# Altium footprint library multimodal.PcbLib: 69 footprints (part 3 of 5)
Each footprint in its own frame and in the unit in brackets; x right, y up, seen from the top. Pads: shape width x height; smd on the part's side, far side on the other; paste and mask are expansions set on the pad; w line width, h text height; cw(c..) or ccw(c..) is an arc to the next point about the centre after c.
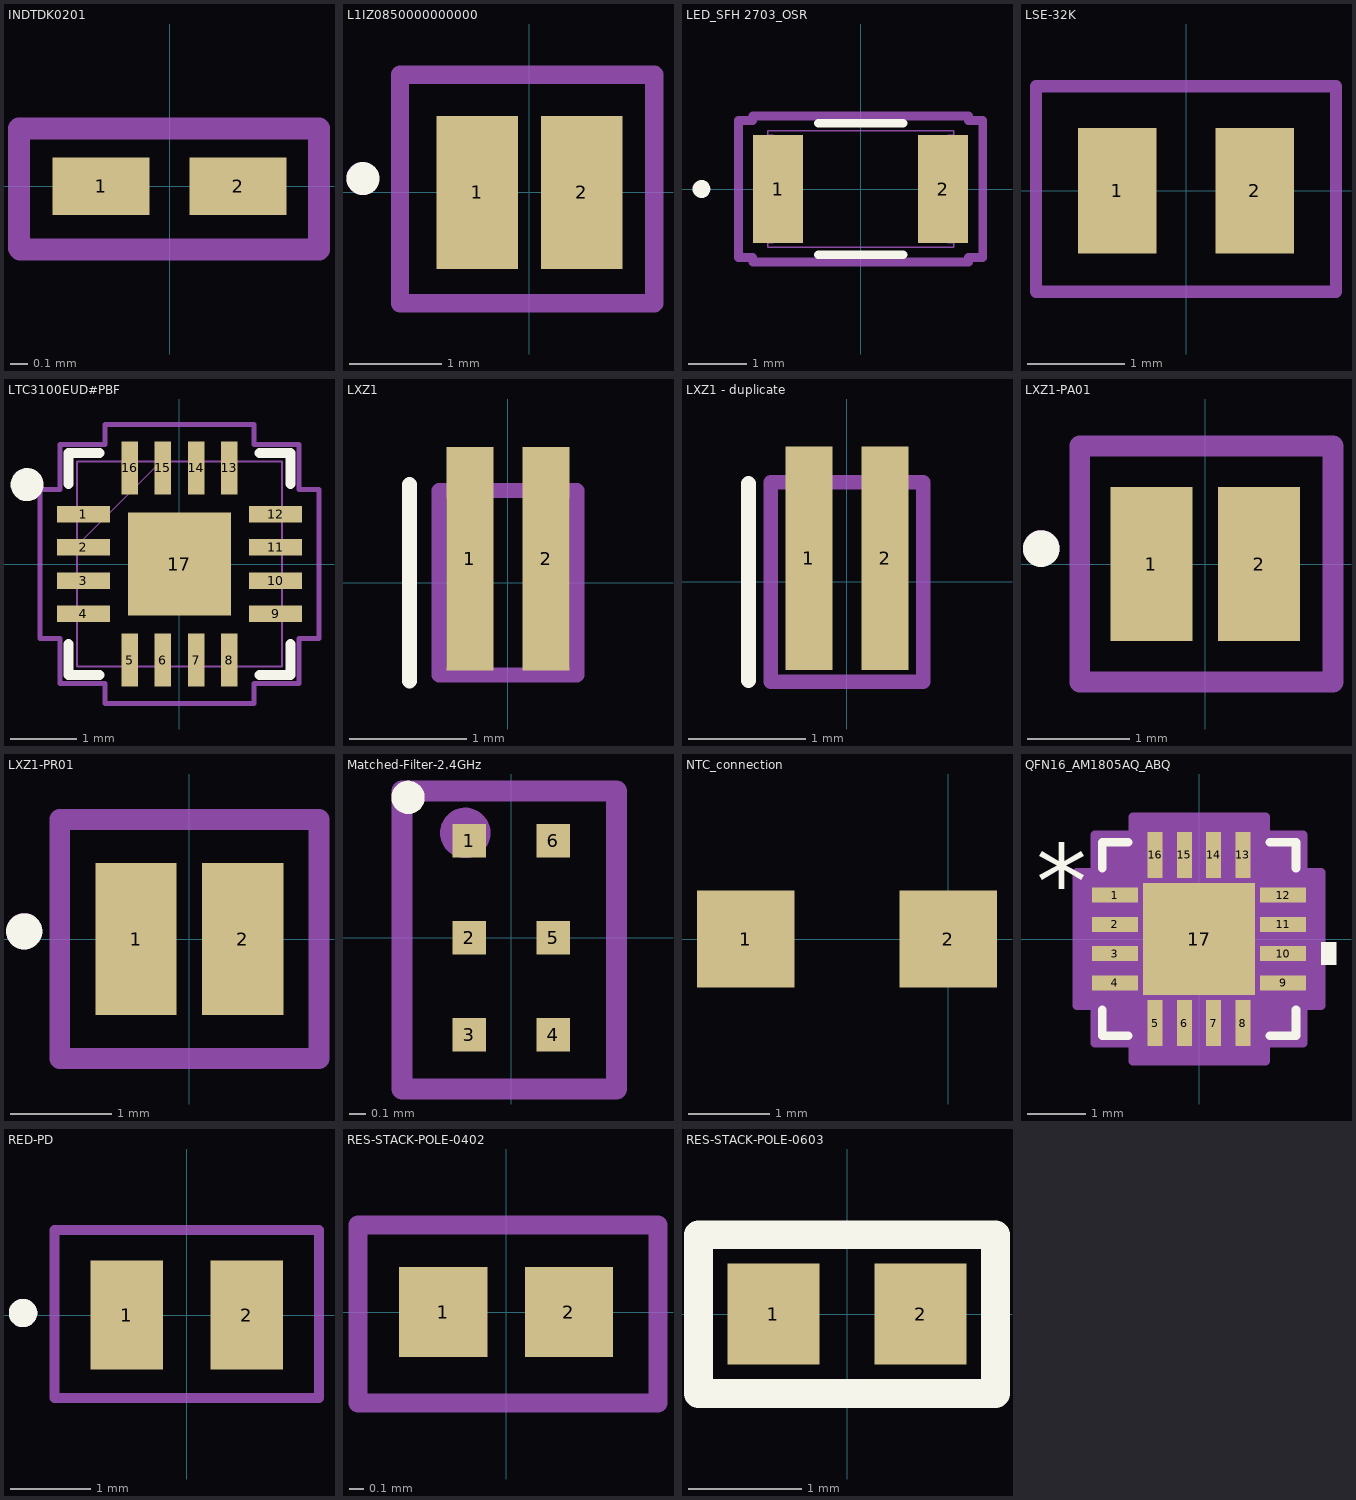
[diagram p2: the footprints below, top view; thin cyan lines are the x and y axes]

## INDTDK0201 [mm]
pads (2):
  rect 0.556x0.33 smd paste+0 mask+0.051: 1(-0.393,0) 2(0.393,0)
Mechanical 13:
  lines w0.127: -0.864,-0.356 -0.864,0.33 0.856,0.33 0.856,-0.363 -0.856,-0.363
  text ".Designator" at -0.559,-0.112 h0.76
3D body "IND_0603_TDK.step": height 0.33, standoff 0, extent -0.315,-0.165 0.315,0.165

## L1IZ0850000000000 [mm]
pads (2):
  rect 0.88x1.65 smd: 1(-0.565,0) 2(0.565,0)
Top Overlay:
  circle w0.254: c-1.8,0.15 r0.051
Mechanical 15:
  circle w0.254: c-1.803,0.152 r0.051
  lines w0.2: -1.4,-1.2 1.35,-1.2 1.35,1.275 -1.4,1.275 -1.4,-1.2
  text ".Designator" at -0.965,-0.143 h1.27
3D body "LUXEON IR Compact Line 00000580 20160830.STEP": height 0.9, standoff 0, extent -0.71,-0.912 0.66,0.988

## LED_SFH 2703_OSR [mil]
pads (2):
  rect 33.78x73 smd paste+0: 1(-55.89,0) 2(55.89,0)
Top Overlay:
  circle w6: c-107.78,0 r3
  lines w6: -28.63,-44.5 28.63,-44.5 ; -28.63,44.5 28.63,44.5
  text ".Designator" at -129.92,-28.54 h50
Mechanical 13:
  circle w1: c-55.89,0 r3
  lines w1: -63,-39.5 -63,39.5 63,39.5 63,-39.5 -63,-39.5 ; -63,-36.5 -59,-36.5 -59,36.5 -63,36.5 -63,-36.5 ; 59,-36.5 59,36.5 63,36.5 63,-36.5 59,-36.5
  text ".Designator" at -137.5,-25 h50
Mechanical 15:
  lines w6: -82.78,-46.5 -73,-46.5 -73,-49.5 73,-49.5 73,-46.5 82.78,-46.5 82.78,46.5 73,46.5 73,49.5 -73,49.5 -73,46.5 -82.78,46.5 -82.78,-46.5
3D body "LED_SFH2703_OSR.step": height 24.09, standoff 0, extent -61.3,-39.49 61.3,39.49

## LSE-32K [mil]
pads (2):
  rect 32x51 smd paste+0: 1(-28,0) 2(28,0)
Mechanical 13:
  lines w5: -61,-41 61,-41 61,42.5 -61,42.5 -61,-41
  text ".Designator" at -40,-6.62 h50
3D body "ABS06-32.768KHZ-9-1-T--3DModel-STEP-400430.STEP": height 24.6, standoff 0.5, extent -39.5,-22.5 39.5,24.5

## LTC3100EUD#PBF [mm]
pads (17):
  rect 0.805x0.249 smd paste+0 mask+0.051: 1(-1.452,0.75) 2(-1.452,0.25) 3(-1.452,-0.25) 4(-1.452,-0.75) 9(1.452,-0.75) 10(1.452,-0.25) 11(1.452,0.25) 12(1.452,0.75)
  rect 0.249x0.805 smd paste+0 mask+0.051: 5(-0.75,-1.452) 6(-0.25,-1.452) 7(0.25,-1.452) 8(0.75,-1.452) 13(0.75,1.452) 14(0.25,1.452) 15(-0.25,1.452) 16(-0.75,1.452)
  rect 1.55x1.55 smd paste+0 mask+0.051: 17(0,0)
Top Overlay:
  circle w0.254: c-2.304,1.2 r0.122
  lines w0.152: -1.677,-1.207 -1.677,-1.677 -1.207,-1.677 ; -1.677,1.207 -1.677,1.677 -1.207,1.677 ; 1.207,-1.677 1.677,-1.677 1.677,-1.207 ; 1.207,1.677 1.677,1.677 1.677,1.207
Top 3D Body:
  lines w0.025: -1.55,0.28 -0.28,1.55 ; -1.55,-1.55 1.55,-1.55 1.55,1.55 -1.55,1.55 -1.55,-1.55 ; -1.55,-0.9 -1.55,-0.6 -1.55,-0.9 ; -1.55,-0.4 -1.55,-0.1 -1.55,-0.4 ; -1.55,0.1 -1.55,0.4 -1.55,0.1 ; -1.55,0.6 -1.55,0.9 -1.55,0.6 ; -0.9,-1.55 -0.6,-1.55 -0.9,-1.55 ; -0.9,1.55 -0.6,1.55 -0.9,1.55 ; -0.4,-1.55 -0.1,-1.55 -0.4,-1.55 ; -0.4,1.55 -0.1,1.55 -0.4,1.55 ; 0.1,-1.55 0.4,-1.55 0.1,-1.55 ; 0.1,1.55 0.4,1.55 0.1,1.55 ; 0.6,-1.55 0.9,-1.55 0.6,-1.55 ; 0.6,1.55 0.9,1.55 0.6,1.55 ; 1.55,-0.9 1.55,-0.6 1.55,-0.9 ; 1.55,-0.4 1.55,-0.1 1.55,-0.4 ; 1.55,0.1 1.55,0.4 1.55,0.1 ; 1.55,0.6 1.55,0.9 1.55,0.6
Top Courtyard:
  lines w0.076: -2.109,-1.129 -1.804,-1.129 -1.804,-1.804 -1.129,-1.804 -1.129,-2.109 1.129,-2.109 1.129,-1.804 1.804,-1.804 1.804,-1.129 2.109,-1.129 2.109,1.129 1.804,1.129 1.804,1.804 1.129,1.804 1.129,2.109 -1.129,2.109 -1.129,1.804 -1.804,1.804 -1.804,1.129 -2.109,1.129 -2.109,-1.129
Top Assembly:
  lines w0.076: -2.109,-1.129 -2.109,1.129 -1.804,1.129 -1.804,1.804 -1.129,1.804 -1.129,2.109 1.129,2.109 1.129,1.804 1.804,1.804 1.804,1.129 2.109,1.129 2.109,-1.129 1.804,-1.129 1.804,-1.804 1.129,-1.804 1.129,-2.109 -1.129,-2.109 -1.129,-1.956 -1.129,-1.804 -1.804,-1.804 -1.804,-1.129 -2.109,-1.129
  text ".Designator" at -3.425,-0.344 h1.52
Top Designator:
  text ".Designator" at -3.425,-0.344 h1.52
3D body "QFN-16_UD_LIT.step": height 0.8, standoff 0, extent -1.55,-1.55 1.55,1.55

## LXZ1 [mm] "Molded LUXEON Z series LED"
height 0.66
pads (2):
  rect 0.4x1.906 smd paste+0 mask+0.046: 1(-0.325,0.203) 2(0.325,0.203)
Top Overlay:
  lines w0.127: -0.838,-0.838 -0.838,0.838
Mechanical 15:
  lines w0.127: -0.586,-0.786 0.587,-0.786 0.587,0.787 -0.586,0.787 -0.586,-0.786
3D body: height 0.66, standoff 0, extent -0.7,-0.9 0.7,0.9

## LXZ1 - duplicate [mm] "Molded LUXEON Z series LED"
height 0.66
pads (2):
  rect 0.4x1.906 smd paste+0 mask+0.046: 1(-0.325,0.203) 2(0.325,0.203)
Top Overlay:
  lines w0.127: -0.838,-0.838 -0.838,0.838
Mechanical 15:
  lines w0.127: -0.65,-0.85 -0.65,0.85 0.65,0.85 0.65,-0.85 -0.65,-0.85
3D body: height 0.66, standoff 0, extent -0.7,-0.9 0.7,0.9

## LXZ1-PA01 [mm]
pads (2):
  rect 0.8x1.5 smd mask+0.051: 1(-0.525,0) 2(0.525,0)
Top Overlay:
  circle w0.254: c-1.6,0.15 r0.051
Mechanical 15:
  circle w0.254: c-1.6,0.152 r0.051
  lines w0.203: -1.225,-1.15 -1.225,1.15 1.245,1.15 1.245,-1.15 -1.225,-1.15
  text ".Designator" at -0.864,-0.168 h1.27
3D body "LUXEON Z AlInGaP.STEP": height 0.97, standoff 0.01, extent -0.64,-0.85 0.66,0.85

## LXZ1-PR01 [mm] "Molded Diode, 2-Leads, Body 1.30x1.70mm, IPC Medium Density"
height 0.66
pads (2):
  rect 0.8x1.5 smd mask+0.051: 1(-0.525,0) 2(0.525,0)
Top Overlay:
  circle w0.254: c-1.625,0.075 r0.051
Mechanical 15:
  circle w0.254: c-1.626,0.076 r0.051
  lines w0.203: -1.275,-1.175 -1.275,1.175 1.275,1.175 1.275,-1.175 -1.275,-1.175
  text ".Designator" at -0.889,-0.168 h1.27
3D body "LUXEON Z InGaN Direct Color 0660.STEP": height 0.66, standoff 0, extent -0.65,-0.85 0.65,0.85

## Matched-Filter-2.4GHz [mil]
pads (6):
  rect 8x8 smd paste+0 mask+0.79: 1(-10,23.11) 2(-10,0) 3(-10,-23.11) 4(10,-23.11) 5(10,0) 6(10,23.11)
Top Overlay:
  circle w3.94: c-24.61,33.46 r2
Mechanical 13:
  circle w8: c-11,25 r2
  lines w5: -26,-36 -26,35 25,35 25,-36 -26,-36
  text ".Designator" at -21,-7.49 h40
3D body "MLPF-WB55-01E3_STM.step": height 18.11, standoff 0, extent -20,-32.01 20,32.01

## NTC_connection [mm]
pads (2):
  rect 1.2x1.2 smd paste+0 mask+0.1: 1(-2.5,0) 2(0,0)
Mechanical 13:
  text ".Designator" at -2.65,-0.087 h1.27

## PCBComponent_1 [mm]

## QFN16_AM1805AQ_ABQ [mil]
pads (17):
  rect 31x10 smd paste+0 mask+0: 1(-56.5,29.53) 2(-56.5,9.84) 3(-56.5,-9.84) 4(-56.5,-29.53) 9(56.5,-29.53) 10(56.5,-9.84) 11(56.5,9.84) 12(56.5,29.53)
  rect 10x31 smd paste+0 mask+0: 5(-29.53,-56.5) 6(-9.84,-56.5) 7(9.84,-56.5) 8(29.53,-56.5) 13(29.53,56.5) 14(9.84,56.5) 15(-9.84,56.5) 16(-29.53,56.5)
  rect 75x75 smd paste+0 mask+0: 17(0,0)
Top Overlay:
  region: 82,-2.34 92,-2.34 92,-17.34 82,-17.34
  lines w6: -65,-47.63 -65,-65 -47.63,-65 ; -65,47.63 -65,65 -47.63,65 ; 47.63,-65 65,-65 65,-47.63 ; 47.63,65 65,65 65,47.63
  text "*" at -109.5,14.37 h50
  text ".Designator" at -75,-25 h30
Mechanical 13:
  lines w1: -60,10 -10,60 ; -60,-60 60,-60 60,60 -60,60 -60,-60 ; -60,-35.53 -60,-23.53 -60,-35.53 ; -60,-15.84 -60,-3.84 -60,-15.84 ; -60,3.84 -60,15.84 -60,3.84 ; -60,23.53 -60,35.53 -60,23.53 ; -35.53,-60 -23.53,-60 -35.53,-60 ; -35.53,60 -23.53,60 -35.53,60 ; -15.84,-60 -3.84,-60 -15.84,-60 ; -15.84,60 -3.84,60 -15.84,60 ; 3.84,-60 15.84,-60 3.84,-60 ; 3.84,60 15.84,60 3.84,60 ; 23.53,-60 35.53,-60 23.53,-60 ; 23.53,60 35.53,60 23.53,60 ; 60,-35.53 60,-23.53 60,-35.53 ; 60,-15.84 60,-3.84 60,-15.84 ; 60,3.84 60,15.84 60,3.84 ; 60,23.53 60,35.53 60,23.53
  text "*" at -53.5,14.37 h50
  text ".Designator" at -69.88,-24.61 h30
Mechanical 15:
  region: -44.53,-70 -70,-70 -70,-44.53 -82,-44.53 -82,44.53 -70,44.53 -70,70 -44.53,70 -44.53,82 44.53,82 44.53,70 70,70 70,44.53 82,44.53 82,-44.53 70,-44.53 70,-70 44.53,-70 44.53,-82 -44.53,-82
  lines w6: -82,-44.53 -70,-44.53 -70,-70 -44.53,-70 -44.53,-82 44.53,-82 44.53,-70 70,-70 70,-44.53 82,-44.53 82,44.53 70,44.53 70,70 44.53,70 44.53,82 -44.53,82 -44.53,70 -70,70 -70,44.53 -82,44.53 -82,-44.53
3D body "QFN16_AM1805AQ_ABQ.step": height 35.12, standoff 0, extent -60,-60 60,60

## RED-PD [mm]
pads (2):
  rect 0.91x1.36 smd: 1(-0.75,0) 2(0.75,0)
Top Overlay:
  circle w0.254: c-2.05,0.025 r0.051
Mechanical 15:
  circle w0.254: c-2.05,0.025 r0.051
  lines w0.127: -1.656,-1.041 -1.656,1.067 1.656,1.067 1.656,-1.041 -1.656,-1.041
  text ".Designator" at -0.889,-0.117 h1.27
3D body "SFH_2716.stp": height 1.1, standoff 0, extent -1,-0.625 1,0.625

## RES-STACK-POLE-0402 [mm]
pads (2):
  rect 0.59x0.6 smd: 1(-0.42,0) 2(0.42,0)
Mechanical 13:
  lines w0.127: -0.991,-0.61 -0.991,0.584 1.016,0.584 1.016,-0.61 -0.991,-0.61
  text ".Designator" at -0.762,-0.139 h1.02
3D body "STA_RMCF0402_STP.step": height 0.41, standoff 0, extent -0.546,-0.279 0.546,0.279

## RES-STACK-POLE-0603 [mil]
pads (2):
  rect 32x35 smd paste+0: 1(-25.5,0) 2(25.5,0)
Top Overlay:
  lines w10: -51.5,-27.5 -51.5,27.5 51.5,27.5 51.5,-27.5 -51.5,-27.5
Mechanical 13:
  lines w5: -52,-28 -52,28 52,28 52,-28 -52,-28
  text ".Designator" at -38,-6.62 h50
3D body "STA_RNCP0603_STP.step": height 24.02, standoff 0, extent -33.5,-17.48 33.5,17.48